# EAGLE library part W2L1YC104MAT1A (library AVX_By_element14_Batch_1)
CAPACITOR ARRAY,0508
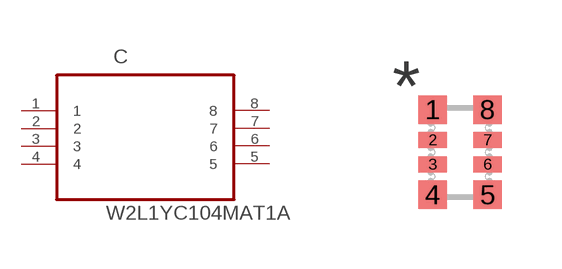
[diagram p1: symbol with the pads of CAPCAF50PX203X127X55-08; footprint CAPCAF50PX203X127X55-08]

Designator prefix C

## W2L1YC104MAT1A (MPN: W2L1YC104MAT1A; OC_FARNELL: 1547183; OC_NEWARK: 75M3043; SUPPLIER: AVX; TOLERANCE: ±20%; VALUE: 0.1µF; VOLTAGE: 16V)  [CAPCAF50PX203X127X55-08]
1  1  pas
2  2  pas
3  3  pas
4  4  pas
5  5  pas
6  6  pas
7  7  pas
8  8  pas

## Footprint CAPCAF50PX203X127X55-08 (pad centres in mm)
smd 0.711 x 0.711: 1 -0.686,1.067; 4 -0.686,-1.067; 5 0.686,-1.067; 8 0.686,1.067
smd 0.711 x 0.406: 2 -0.686,0.305; 3 -0.686,-0.305; 6 0.686,-0.305; 7 0.686,0.305